# Altium footprint library m68k.PcbLib: 35 footprints (part 3 of 3)
Each footprint in its own frame and in the unit in brackets; x right, y up, seen from the top. Pads: shape width x height; smd on the part's side, far side on the other; paste and mask are expansions set on the pad; w line width, h text height; cw(c..) or ccw(c..) is an arc to the next point about the centre after c.
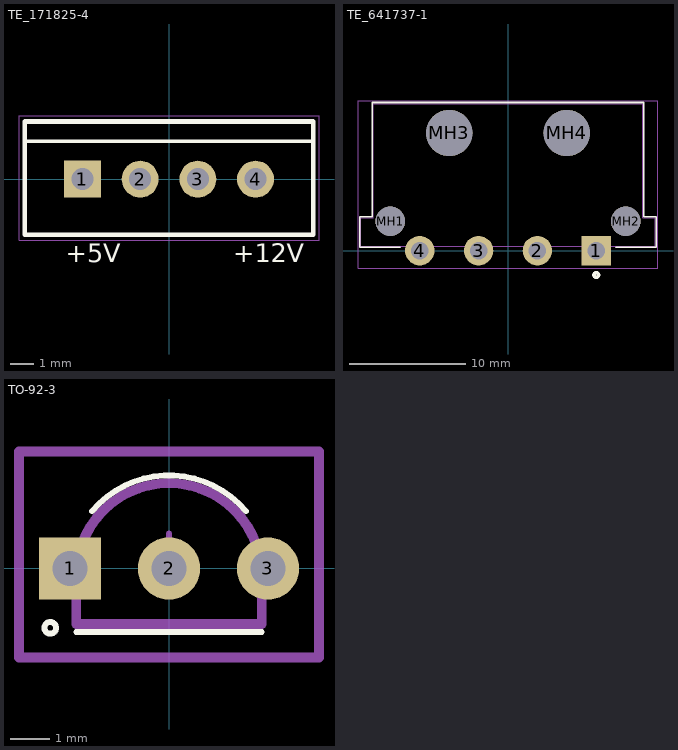
[diagram p2: the footprints below, top view; thin cyan lines are the x and y axes]

## TE_171825-4 [mm] "TE Connectivity (AMP) 171825-4 EI series post header, 4 pos, 2.5 mm, vertical THT. Top view; origin = centre of pin row; latch wall at +Y; pin 1 at -X (end not defined on TE drawing - verify against mating 171822-4 cable)."
height 10.4
pads (4):
  rect 1.6x1.6 hole 0.95 mask+0.075: 1(-3.75,0)
  round 1.6 hole 0.95 mask+0.075: 2(-1.25,0) 3(1.25,0) 4(3.75,0)
Top Overlay:
  lines w0.15: -6.25,1.64 6.25,1.64
  lines w0.2: -6.25,-2.4 6.25,-2.4 6.25,2.5 -6.25,2.5 -6.25,-2.4
  text "+5V" at -4.47,-3.6 h0.8
  text "+12V" at 2.79,-3.6 h0.8
  text ".Designator" at -3.3,3 h1
Top Component Outline:
  lines w0.1: -6.25,-2.4 6.25,-2.4 6.25,2.5 -6.25,2.5 -6.25,-2.4
Top Assembly:
  lines w0.1: -6.25,-2.4 6.25,-2.4 6.25,2.5 -6.25,2.5 -6.25,-2.4
Top Designator:
  text ".Designator" at -2.64,-1.6 h0.8
Top Courtyard:
  lines w0.05: -6.5,-2.65 6.5,-2.65 6.5,2.75 -6.5,2.75 -6.5,-2.65
3D body: height 10.4, standoff 0, extent -6.25,-2.4 6.25,2.5

## TE_641737-1 [mil] "TE 641737-1 Commercial MATE-N-LOK RA PC header, 4 pos, 5.08 mm pitch, THT, for 1.6 mm (0.062 in) PCB"
height 344.88
pads (8):
  rect 100x100 hole 60 mask+2.95: 1(300,0)
  round 100 hole 60 mask+2.95: 2(100,0) 3(-100,0) 4(-300,0)
  round 100.04 hole 100 unplated mask+2.95: MH1(-400,100) MH2(400,100)
  round 157.05 hole 157.01 unplated mask+2.95: MH3(-200,400) MH4(200,400)
Top Overlay:
  circle w11.81: c300,-82.68 r7.87
  lines w5.91: -366.14,11.81 -503.94,11.81 -503.94,115.75 -461.81,115.75 -461.81,503.94 461.81,503.94 461.81,115.75 503.94,115.75 503.94,11.81 366.14,11.81
  text ".Designator" at -129.92,523.62 h39.37
Top Component Outline:
  lines w3.94: -500,15.75 -500,111.81 -457.87,111.81 -457.87,500 457.87,500 457.87,111.81 500,111.81 500,15.75 -500,15.75
Top Designator:
  text ".Designator" at -129.92,236.22 h39.37
Top Courtyard:
  lines w1.97: -509.84,-59.84 -509.84,509.84 509.84,509.84 509.84,-59.84 -509.84,-59.84
3D body: height 344.88, standoff 0, extent -500,15.75 500,500

## TO-92-3 [mm]
pads (3):
  rect 1.6x1.6 hole 0.9: 1(-2.54,0)
  round 1.6 hole 0.9: 2(0,0) 3(2.54,0)
Top Overlay:
  circle w0.15: c-3.048,-1.524 r0.15
  lines w0.15: -2.38,-1.63 2.38,-1.63 ; -1.976,1.468 cw(c0,-0.19) 1.976,1.468
Top Component Outline:
  lines w0.254: -2.38,-1.43 2.38,-1.43 2.38,-0.19 ccw(c0,-0.19) -2.38,-0.19 -2.38,-1.43
Top Assembly:
  lines w0.254: -2.38,-1.43 2.38,-1.43 2.38,-0.19 ccw(c0,-0.19) -2.38,-0.19 -2.38,-1.43
Top Designator:
  text ".Designator" at 0.254,1.162 h1.52
Top Courtyard:
  lines w0.254: -3.85,-2.286 3.85,-2.286 3.85,3 -3.85,3 -3.85,-2.286
Top Component Center:
  lines w0.15: -0.246,0.635 0.254,0.635 ; 0,0.4 0,0.9